# Altium schematic symbol library Biblioteca_Squematico.SchLib: 2 symbols
Pins are listed as number, name and electrical type; pins without a type are passive.

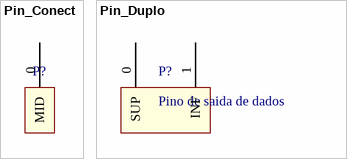
[diagram p0: symbols Pin_Conect to Pin_Duplo]

## Pin_Conect
designator P?, comment Via para conectar  (value not drawn)
footprint Via_Conect
pins: 0 MID

## Pin_Duplo
designator P?, comment Pino de saida de dados
footprint SAIDA_DADOS
pins: 0 SUP, 1 INF